# Altium footprint library TP4057.PcbLib: 1 footprints
Each footprint in its own frame and in the unit in brackets; x right, y up, seen from the top. Pads: shape width x height; smd on the part's side, far side on the other; paste and mask are expansions set on the pad; w line width, h text height; cw(c..) or ccw(c..) is an arc to the next point about the centre after c.
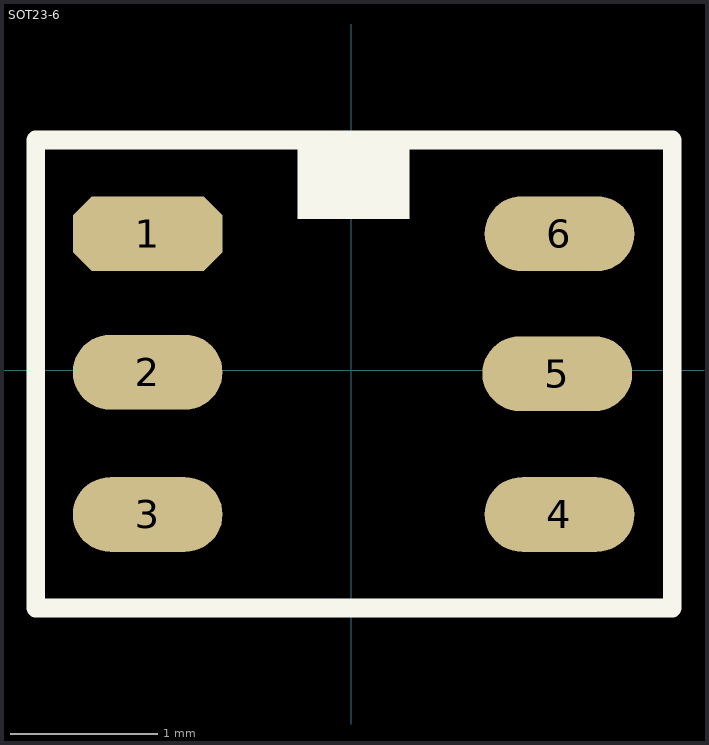
[diagram p0: the footprint, top view; thin cyan lines are the x and y axes]

## SOT23-6 [mil]
pads (6):
  oct 40x20 smd: 1(-54.41,36.45)
  oval 40x20 smd: 2(-54.41,-0.55) 3(-54.41,-38.55) 4(55.59,-38.55) 5(55,-0.95) 6(55.59,36.45)
Top Overlay:
  rectangle: -14.41,40.39 15.59,60.07
  lines w5: -84.3,47.47 -84.3,48.47 ; -84.3,51.47 -84.3,61.47 ; -70.3,61.47 -68.3,61.47 ; -69.3,61.47 -84.3,61.47 ; -84.3,61.47 85.7,61.47 85.7,-63.53 -84.3,-63.53 -84.3,61.47
3D body "User Library-SOT23-6.step": height 51.18, standoff 0, extent -59.06,-60 59.06,58.11